# Altium footprint library Flex-strap-440x105-offset.PcbLib: 1 footprints
Each footprint in its own frame and in the unit in brackets; x right, y up, seen from the top. Pads: shape width x height; smd on the part's side, far side on the other; paste and mask are expansions set on the pad; w line width, h text height; cw(c..) or ccw(c..) is an arc to the next point about the centre after c.
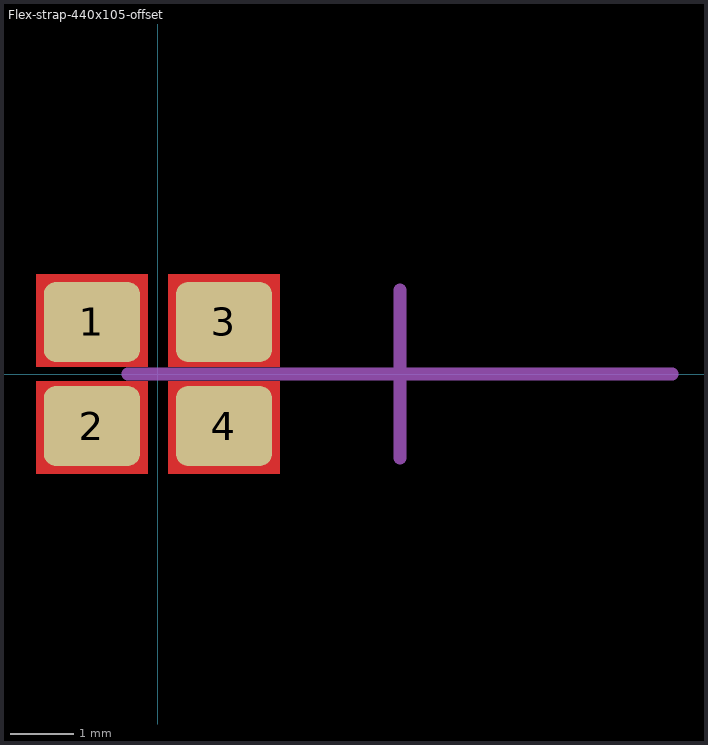
[diagram p0: the footprint, top view; thin cyan lines are the x and y axes]

## Flex-strap-440x105-offset [mil] "strap is offset from pad"
pads (4):
  rrect30% 60x50 smd paste-4 mask+0: 1(-41.25,32.5) 2(-41.25,-32.5) 3(41.25,32.5) 4(41.25,-32.5)
Top Layer:
  rectangle: 6.25,-62.5 76.25,-4.5
  rectangle: 6.25,4.5 76.25,62.5
  rectangle: -76.25,-62.5 -6.25,-4.5
  rectangle: -76.25,4.5 -6.25,62.5
Mechanical 1:
  lines w7.87: -18.75,0 321.25,0 ; 151.25,52.5 151.25,-52.5 151.25,-0.01 ; 151.25,-0.01 ccw(c151.25,-0.01) 151.25,0
3D body: height 10, standoff 0, extent -68.75,-52.5 371.25,52.5